# EAGLE library part PMW3360 (library JH)
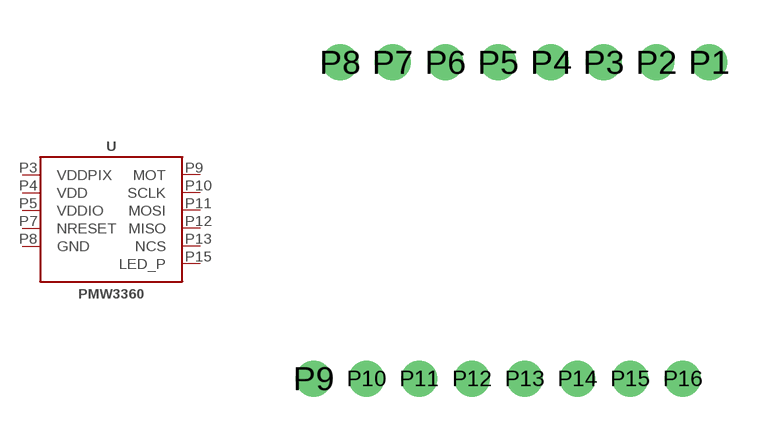
[diagram p4: symbol with the pads of PMW3360; footprint PMW3360]

Designator prefix -

## PMW3360  [PMW3360]
P1  P$1  nc
P2  P$1  nc
P3  VDDPIX  pwr
P4  VDD  pwr
P5  VDDIO  pwr
P6  P$1  nc
P7  NRESET  in
P8  GND  pwr
P9  MOT  out
P10  SCLK  in
P11  MOSI  in
P12  MISO  out
P13  NCS  in
P14  P$1  nc
P15  LED_P  in
P16  P$1  nc

## Footprint PMW3360 (pad centres in mm)
drill 0.7: P1 13.35,5.34; P2 11.57,5.34; P3 9.79,5.34; P4 8.01,5.34; P5 6.23,5.34; P6 4.45,5.34; P7 2.67,5.34; P8 0.89,5.34; P9 0,-5.34; P10 1.78,-5.34; P11 3.56,-5.34; P12 5.34,-5.34; P13 7.12,-5.34; P14 8.9,-5.34; P15 10.68,-5.34; P16 12.46,-5.34